# Altium footprint library ADS8344E.PcbLib: 3 footprints
Each footprint in its own frame and in the unit in brackets; x right, y up, seen from the top. Pads: shape width x height; smd on the part's side, far side on the other; paste and mask are expansions set on the pad; w line width, h text height; cw(c..) or ccw(c..) is an arc to the next point about the centre after c.
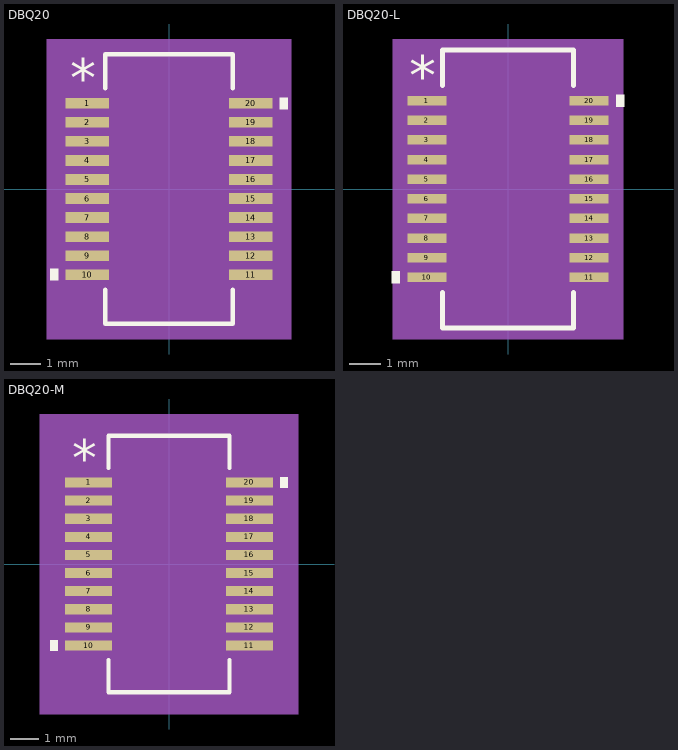
[diagram p0: the footprints below, top view; thin cyan lines are the x and y axes]

## DBQ20 [mil]
pads (20):
  rect 57.28x13.97 smd paste+0 mask+0: 1(-107.14,112.5) 2(-107.14,87.5) 3(-107.14,62.5) 4(-107.14,37.5) 5(-107.14,12.5) 6(-107.14,-12.5) 7(-107.14,-37.5) 8(-107.14,-62.5) 9(-107.14,-87.5) 10(-107.14,-112.5) 11(107.14,-112.5) 12(107.14,-87.5) 13(107.14,-62.5) 14(107.14,-37.5) 15(107.14,-12.5) 16(107.14,12.5) 17(107.14,37.5) 18(107.14,62.5) 19(107.14,87.5) 20(107.14,112.5)
Top Overlay:
  region: -145.78,-105 -155.78,-105 -155.78,-120 -145.78,-120
  region: 145.78,120 155.78,120 155.78,105 145.78,105
  lines w6: -83.5,-132.58 -83.5,-177 83.5,-177 83.5,-132.58 ; -83.5,132.58 -83.5,177 83.5,177 83.5,132.58
  text "*" at -129.64,121.47 h50
Mechanical 5:
  region: 160.78,-197 -160.78,-197 -160.78,197 160.78,197
Mechanical 13:
  lines w0: -12,172 ccw(c0,172) 12,172
  lines w1: -122,-118.5 -122,-106.5 -78.5,-106.5 -78.5,-118.5 -122,-118.5 ; -122,-93.5 -122,-81.5 -78.5,-81.5 -78.5,-93.5 -122,-93.5 ; -122,-68.5 -122,-56.5 -78.5,-56.5 -78.5,-68.5 -122,-68.5 ; -122,-43.5 -122,-31.5 -78.5,-31.5 -78.5,-43.5 -122,-43.5 ; -122,-18.5 -122,-6.5 -78.5,-6.5 -78.5,-18.5 -122,-18.5 ; -122,6.5 -122,18.5 -78.5,18.5 -78.5,6.5 -122,6.5 ; -122,31.5 -122,43.5 -78.5,43.5 -78.5,31.5 -122,31.5 ; -122,56.5 -122,68.5 -78.5,68.5 -78.5,56.5 -122,56.5 ; -122,81.5 -122,93.5 -78.5,93.5 -78.5,81.5 -122,81.5 ; -122,106.5 -122,118.5 -78.5,118.5 -78.5,106.5 -122,106.5 ; -78.5,-172 78.5,-172 78.5,172 -78.5,172 -78.5,-172 ; 78.5,-118.5 78.5,-106.5 122,-106.5 122,-118.5 78.5,-118.5 ; 78.5,-93.5 78.5,-81.5 122,-81.5 122,-93.5 78.5,-93.5 ; 78.5,-68.5 78.5,-56.5 122,-56.5 122,-68.5 78.5,-68.5 ; 78.5,-43.5 78.5,-31.5 122,-31.5 122,-43.5 78.5,-43.5 ; 78.5,-18.5 78.5,-6.5 122,-6.5 122,-18.5 78.5,-18.5 ; 78.5,6.5 78.5,18.5 122,18.5 122,6.5 78.5,6.5 ; 78.5,31.5 78.5,43.5 122,43.5 122,31.5 78.5,31.5 ; 78.5,56.5 78.5,68.5 122,68.5 122,56.5 78.5,56.5 ; 78.5,81.5 78.5,93.5 122,93.5 122,81.5 78.5,81.5 ; 78.5,106.5 78.5,118.5 122,118.5 122,106.5 78.5,106.5
  text "*" at -76,119 h50
Mechanical 15:
  region: -88.5,-129.48 -145.78,-129.48 -145.78,129.48 -88.5,129.48 -88.5,182 88.5,182 88.5,129.48 145.78,129.48 145.78,-129.48 88.5,-129.48 88.5,-182 -88.5,-182
  lines w6: -145.78,-129.48 -145.78,129.48 -88.5,129.48 -88.5,182 88.5,182 88.5,129.48 145.78,129.48 145.78,-129.48 88.5,-129.48 88.5,-182 -88.5,-182 -88.5,-129.48 -145.78,-129.48
3D body "DBQ20.step": height 69.09, standoff 0, extent -122.01,-172.01 122.01,172.01

## DBQ20-L [mil]
pads (20):
  rect 49.41x12 smd paste+0 mask+0: 1(-103.2,112.5) 2(-103.2,87.5) 3(-103.2,62.5) 4(-103.2,37.5) 5(-103.2,12.5) 6(-103.2,-12.5) 7(-103.2,-37.5) 8(-103.2,-62.5) 9(-103.2,-87.5) 10(-103.2,-112.5) 11(103.2,-112.5) 12(103.2,-87.5) 13(103.2,-62.5) 14(103.2,-37.5) 15(103.2,-12.5) 16(103.2,12.5) 17(103.2,37.5) 18(103.2,62.5) 19(103.2,87.5) 20(103.2,112.5)
Top Overlay:
  region: -137.91,-105 -147.91,-105 -147.91,-120 -137.91,-120
  region: 137.91,120 147.91,120 147.91,105 137.91,105
  lines w6: -83.5,-131.6 -83.5,-177 83.5,-177 83.5,-131.6 ; -83.5,131.6 -83.5,177 83.5,177 83.5,131.6
  text "*" at -125.7,119.5 h50
Mechanical 5:
  region: 146.91,-191 -146.91,-191 -146.91,191 146.91,191
Mechanical 13:
  lines w0: -12,172 ccw(c0,172) 12,172
  lines w1: -122,-118.5 -122,-106.5 -78.5,-106.5 -78.5,-118.5 -122,-118.5 ; -122,-93.5 -122,-81.5 -78.5,-81.5 -78.5,-93.5 -122,-93.5 ; -122,-68.5 -122,-56.5 -78.5,-56.5 -78.5,-68.5 -122,-68.5 ; -122,-43.5 -122,-31.5 -78.5,-31.5 -78.5,-43.5 -122,-43.5 ; -122,-18.5 -122,-6.5 -78.5,-6.5 -78.5,-18.5 -122,-18.5 ; -122,6.5 -122,18.5 -78.5,18.5 -78.5,6.5 -122,6.5 ; -122,31.5 -122,43.5 -78.5,43.5 -78.5,31.5 -122,31.5 ; -122,56.5 -122,68.5 -78.5,68.5 -78.5,56.5 -122,56.5 ; -122,81.5 -122,93.5 -78.5,93.5 -78.5,81.5 -122,81.5 ; -122,106.5 -122,118.5 -78.5,118.5 -78.5,106.5 -122,106.5 ; -78.5,-172 78.5,-172 78.5,172 -78.5,172 -78.5,-172 ; 78.5,-118.5 78.5,-106.5 122,-106.5 122,-118.5 78.5,-118.5 ; 78.5,-93.5 78.5,-81.5 122,-81.5 122,-93.5 78.5,-93.5 ; 78.5,-68.5 78.5,-56.5 122,-56.5 122,-68.5 78.5,-68.5 ; 78.5,-43.5 78.5,-31.5 122,-31.5 122,-43.5 78.5,-43.5 ; 78.5,-18.5 78.5,-6.5 122,-6.5 122,-18.5 78.5,-18.5 ; 78.5,6.5 78.5,18.5 122,18.5 122,6.5 78.5,6.5 ; 78.5,31.5 78.5,43.5 122,43.5 122,31.5 78.5,31.5 ; 78.5,56.5 78.5,68.5 122,68.5 122,56.5 78.5,56.5 ; 78.5,81.5 78.5,93.5 122,93.5 122,81.5 78.5,81.5 ; 78.5,106.5 78.5,118.5 122,118.5 122,106.5 78.5,106.5
  text "*" at -76,119 h50
Mechanical 15:
  region: -82.5,-122.5 -131.91,-122.5 -131.91,122.5 -82.5,122.5 -82.5,176 82.5,176 82.5,122.5 131.91,122.5 131.91,-122.5 82.5,-122.5 82.5,-176 -82.5,-176
  lines w6: -131.91,-122.5 -131.91,122.5 -82.5,122.5 -82.5,176 82.5,176 82.5,122.5 131.91,122.5 131.91,-122.5 82.5,-122.5 82.5,-176 -82.5,-176 -82.5,-122.5 -131.91,-122.5
3D body "DBQ20.step": height 69.09, standoff 0, extent -122.01,-172.01 122.01,172.01

## DBQ20-M [mil]
pads (20):
  rect 65.15x13.97 smd paste+0 mask+0: 1(-111.08,112.5) 2(-111.08,87.5) 3(-111.08,62.5) 4(-111.08,37.5) 5(-111.08,12.5) 6(-111.08,-12.5) 7(-111.08,-37.5) 8(-111.08,-62.5) 9(-111.08,-87.5) 10(-111.08,-112.5) 11(111.08,-112.5) 12(111.08,-87.5) 13(111.08,-62.5) 14(111.08,-37.5) 15(111.08,-12.5) 16(111.08,12.5) 17(111.08,37.5) 18(111.08,62.5) 19(111.08,87.5) 20(111.08,112.5)
Top Overlay:
  region: -153.65,-105 -163.65,-105 -163.65,-120 -153.65,-120
  region: 153.65,120 163.65,120 163.65,105 153.65,105
  lines w6: -83.5,-132.58 -83.5,-177 83.5,-177 83.5,-132.58 ; -83.5,132.58 -83.5,177 83.5,177 83.5,132.58
  text "*" at -133.58,121.47 h50
Mechanical 5:
  region: 178.65,-207 -178.65,-207 -178.65,207 178.65,207
Mechanical 13:
  lines w0: -12,172 ccw(c0,172) 12,172
  lines w1: -122,-118.5 -122,-106.5 -78.5,-106.5 -78.5,-118.5 -122,-118.5 ; -122,-93.5 -122,-81.5 -78.5,-81.5 -78.5,-93.5 -122,-93.5 ; -122,-68.5 -122,-56.5 -78.5,-56.5 -78.5,-68.5 -122,-68.5 ; -122,-43.5 -122,-31.5 -78.5,-31.5 -78.5,-43.5 -122,-43.5 ; -122,-18.5 -122,-6.5 -78.5,-6.5 -78.5,-18.5 -122,-18.5 ; -122,6.5 -122,18.5 -78.5,18.5 -78.5,6.5 -122,6.5 ; -122,31.5 -122,43.5 -78.5,43.5 -78.5,31.5 -122,31.5 ; -122,56.5 -122,68.5 -78.5,68.5 -78.5,56.5 -122,56.5 ; -122,81.5 -122,93.5 -78.5,93.5 -78.5,81.5 -122,81.5 ; -122,106.5 -122,118.5 -78.5,118.5 -78.5,106.5 -122,106.5 ; -78.5,-172 78.5,-172 78.5,172 -78.5,172 -78.5,-172 ; 78.5,-118.5 78.5,-106.5 122,-106.5 122,-118.5 78.5,-118.5 ; 78.5,-93.5 78.5,-81.5 122,-81.5 122,-93.5 78.5,-93.5 ; 78.5,-68.5 78.5,-56.5 122,-56.5 122,-68.5 78.5,-68.5 ; 78.5,-43.5 78.5,-31.5 122,-31.5 122,-43.5 78.5,-43.5 ; 78.5,-18.5 78.5,-6.5 122,-6.5 122,-18.5 78.5,-18.5 ; 78.5,6.5 78.5,18.5 122,18.5 122,6.5 78.5,6.5 ; 78.5,31.5 78.5,43.5 122,43.5 122,31.5 78.5,31.5 ; 78.5,56.5 78.5,68.5 122,68.5 122,56.5 78.5,56.5 ; 78.5,81.5 78.5,93.5 122,93.5 122,81.5 78.5,81.5 ; 78.5,106.5 78.5,118.5 122,118.5 122,106.5 78.5,106.5
  text "*" at -76,119 h50
Mechanical 15:
  region: -98.5,-139.48 -163.65,-139.48 -163.65,139.48 -98.5,139.48 -98.5,192 98.5,192 98.5,139.48 163.65,139.48 163.65,-139.48 98.5,-139.48 98.5,-192 -98.5,-192
  lines w6: -163.65,-139.48 -163.65,139.48 -98.5,139.48 -98.5,192 98.5,192 98.5,139.48 163.65,139.48 163.65,-139.48 98.5,-139.48 98.5,-192 -98.5,-192 -98.5,-139.48 -163.65,-139.48
3D body "DBQ20.step": height 69.09, standoff 0, extent -122.01,-172.01 122.01,172.01